# Altium footprint library JMPKG.PcbLib: 337 footprints (part 4 of 22)
Each footprint in its own frame and in the unit in brackets; x right, y up, seen from the top. Pads: shape width x height; smd on the part's side, far side on the other; paste and mask are expansions set on the pad; w line width, h text height; cw(c..) or ccw(c..) is an arc to the next point about the centre after c.
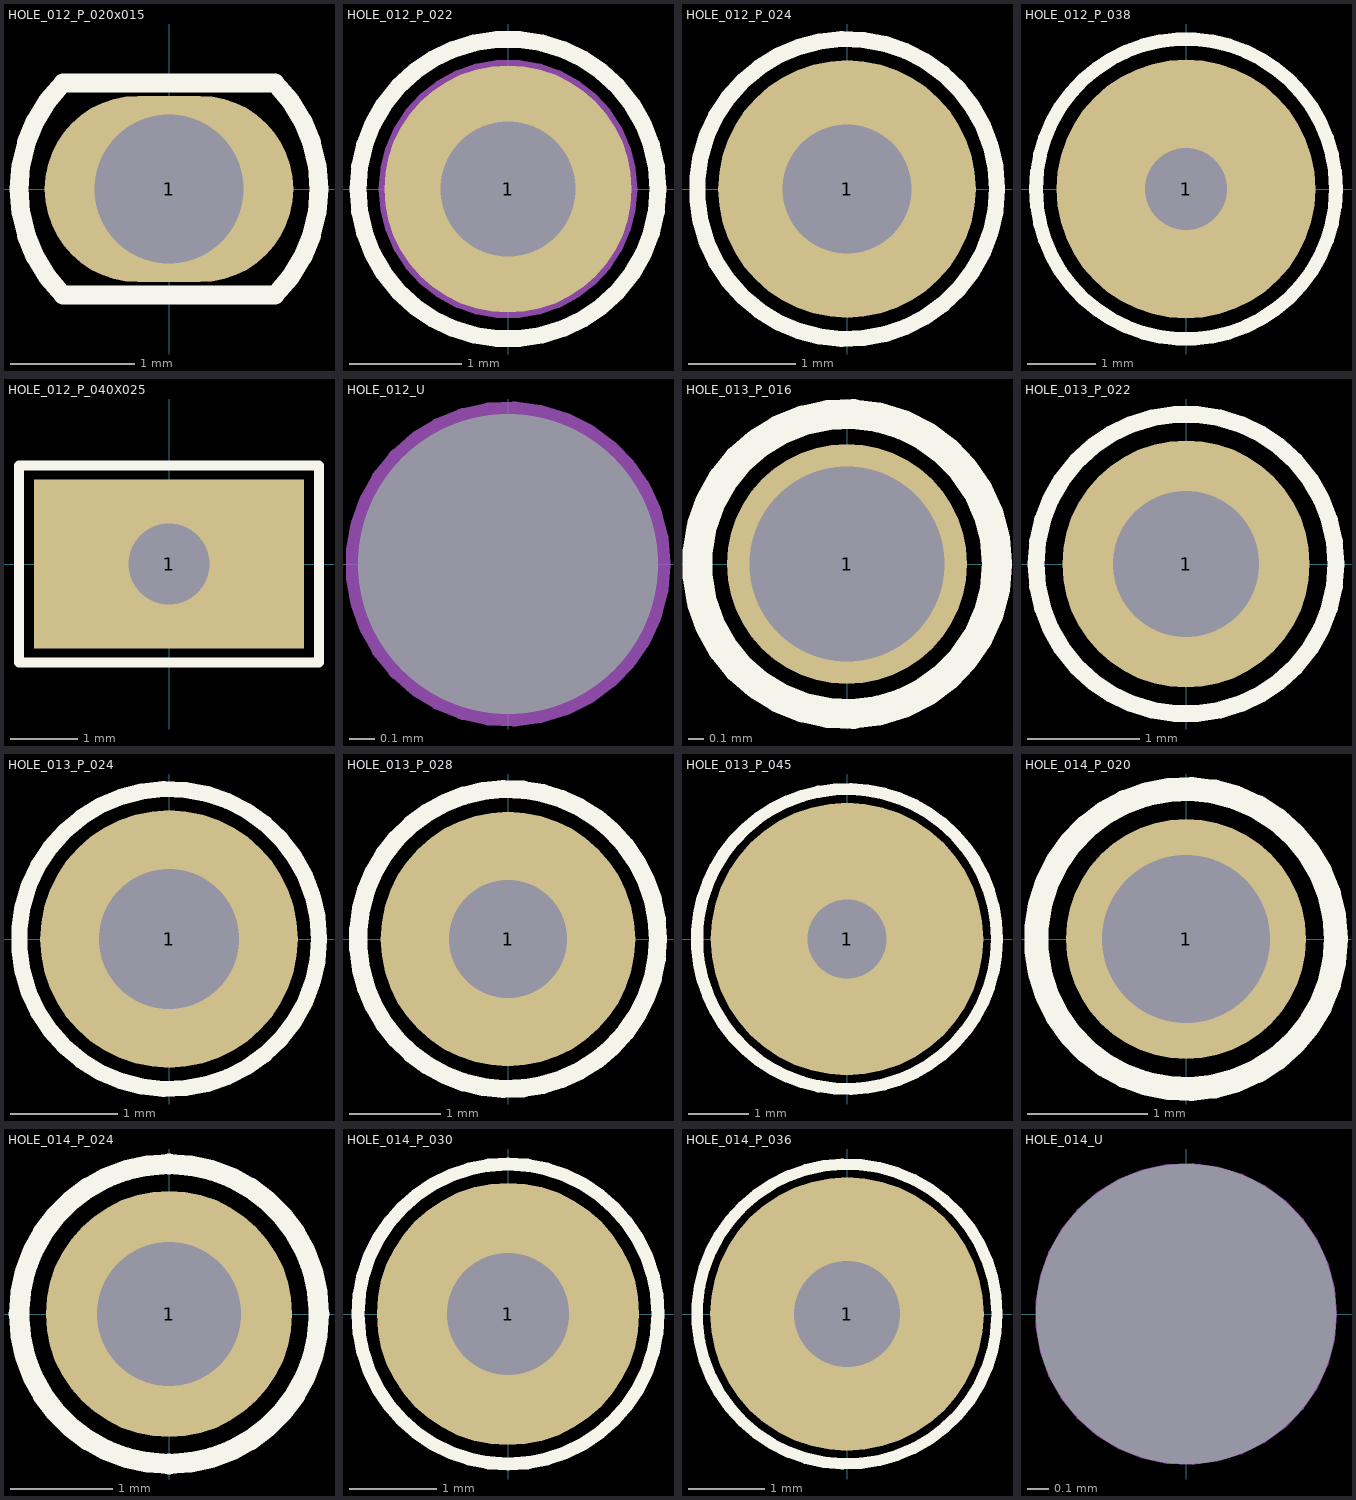
[diagram p3: the footprints below, top view; thin cyan lines are the x and y axes]

## HOLE_012_P_020x015 [mm] "Dira 1.2mm, ovalna ploska 2x1.5mm"
pads (1):
  oval 2x1.5 hole 1.2 mask+0.05: 1(0,0)
Top Overlay:
  lines w0.15: -0.853,-0.853 cw(c0,0) -0.853,0.853 0.853,0.853 cw(c0,0) 0.853,-0.853 -0.853,-0.853
Mechanical 15:
  circle w0.05: c0,0 r0.6
Mechanical 16:
  circle w0.05: c0,0 r0.6

## HOLE_012_P_022 [mm]
pads (1):
  round 2.2 hole 1.2 mask+0.05: 1(0,0)
Top Overlay:
  circle w0.15: c0,0 r1.333
Mechanical 15:
  circle w0.01: c0,0 r0.6
Mechanical 16:
  circle w0.01: c0,0 r0.6
Multi-Layer:
  text "Value" at -0.943,-0.622 h0.6
  text "Value" at -0.925,-1.073 h0.6
Mechanical 20:
  circle w0.1: c0,0 r1.1
  circle w0.01: c0,0 r1.333

## HOLE_012_P_024 [mm]
pads (1):
  round 2.4 hole 1.2 mask+0.05: 1(0,0)
Top Overlay:
  circle w0.15: c0,0 r1.397
Drill Drawing:
  circle w0.01: c0,0 r0.6
Multi-Layer:
  text "Value" at -0.943,-0.622 h0.6
  text "Value" at -0.968,-0.675 h0.6
Mechanical 20:
  circle w0.01: c0,0 r1.397

## HOLE_012_P_038 [mm]
pads (1):
  round 3.8 hole 1.2 mask+0.1: 1(0,0)
Top Overlay:
  circle w0.2: c0,0 r2.2
Mechanical 15:
  circle w0.1: c0,0 r0.6
Mechanical 16:
  circle w0.1: c0,0 r0.6
Multi-Layer:
  text "Value" at -1.235,-0.742 h0.75
Mechanical 20:
  circle w0.1: c0,0 r2.2

## HOLE_012_P_040X025 [mm]
pads (1):
  rect 4x2.5 hole 1.2 mask+0.05: 1(0,0)
Top Overlay:
  lines w0.15: -2.222,-1.46 -2.222,1.46 2.222,1.46 2.222,-1.46 -2.222,-1.46
Mechanical 15:
  circle w0.01: c0,0 r0.6
Mechanical 16:
  circle w0.01: c0,0 r0.6
Multi-Layer:
  text "Value" at -1.235,-0.983 h0.75
Mechanical 20:
  lines w0.01: -2.222,-1.46 -2.222,1.46 2.222,1.46 2.222,-1.46 -2.222,-1.46

## HOLE_012_U [mm]
pads (1):
  round 0 hole 1.2 unplated: 1(0,0)
Mechanical 15:
  circle w0.1: c0,0 r0.6
Mechanical 16:
  circle w0.1: c0,0 r0.6

## HOLE_013_P_016 [mm]
pads (1):
  round 1.6 hole 1.3 mask+0.05: 1(0,0)
Top Overlay:
  circle w0.2: c0,0 r1
Mechanical 15:
  circle w0.1: c0,0 r0.5
Mechanical 16:
  circle w0.1: c0,0 r0.5

## HOLE_013_P_022 [mm]
pads (1):
  round 2.2 hole 1.3 mask+0.05: 1(0,0)
Top Overlay:
  circle w0.15: c0,0 r1.333
Mechanical 15:
  circle w0.01: c0,0 r0.65
Mechanical 16:
  circle w0.01: c0,0 r0.65
Multi-Layer:
  text "Value" at -1.007,-0.686 h0.6
Mechanical 20:
  circle w0.01: c0,0 r1.333

## HOLE_013_P_024 [mm]
pads (1):
  round 2.4 hole 1.3 mask+0.05: 1(0,0)
Top Overlay:
  circle w0.15: c0,0 r1.397
Mechanical 15:
  circle w0.01: c0,0 r0.65
Mechanical 16:
  circle w0.01: c0,0 r0.65
Multi-Layer:
  text "Value" at -1.007,-0.686 h0.6
Mechanical 20:
  circle w0.01: c0,0 r1.397

## HOLE_013_P_028 [mm]
pads (1):
  round 2.8 hole 1.3 mask+0.05: 1(0,0)
Top Overlay:
  circle w0.2: c0,0 r1.65
Mechanical 15:
  circle w0.1: c0,0 r0.65
Mechanical 16:
  circle w0.1: c0,0 r0.65
Multi-Layer:
  text "Value" at -1.299,-0.806 h0.75
Mechanical 20:
  circle w0.1: c0,0 r1.65

## HOLE_013_P_045 [mm]
pads (1):
  round 4.5 hole 1.3 mask+0.05: 1(0,0)
Top Overlay:
  circle w0.2: c0,0 r2.476
Mechanical 15:
  circle w0.01: c0,0 r0.65
Mechanical 16:
  circle w0.01: c0,0 r0.65
Multi-Layer:
  text "Value" at -1.26,-1.276 h0.75
Mechanical 20:
  circle w0.01: c0,0 r2.476

## HOLE_014_P_020 [mm]
pads (1):
  round 2 hole 1.4 mask+0.1: 1(0,0)
Top Overlay:
  circle w0.2: c0,0 r1.25
Mechanical 15:
  circle w0.1: c0,0 r0.7
Mechanical 16:
  circle w0.1: c0,0 r0.7

## HOLE_014_P_024 [mm]
pads (1):
  round 2.4 hole 1.4 mask+0.05: 1(0,0)
Top Overlay:
  circle w0.2: c0,0 r1.462
Mechanical 15:
  circle w0.01: c0,0 r0.7
Mechanical 16:
  circle w0.01: c0,0 r0.7
Multi-Layer:
  text "Value" at -1.19,-1.28 h0.75
  text "Value" at -1.299,-1.11 h0.75
Mechanical 20:
  circle w0.01: c0,0 r1.46

## HOLE_014_P_030 [mm]
pads (1):
  round 3 hole 1.4 mask+0.05: 1(0,0)
Top Overlay:
  circle w0.15: c0,0 r1.714
Mechanical 15:
  circle w0.01: c0,0 r0.7
Mechanical 16:
  circle w0.01: c0,0 r0.7
Multi-Layer:
  text "Value" at -0.988,0.225 h0.6
Mechanical 20:
  circle w0.01: c0,0 r1.714

## HOLE_014_P_036 [mm]
pads (1):
  round 3.6 hole 1.4 mask+0.05: 1(0,0)
Top Overlay:
  circle w0.15: c0,0 r1.973
Mechanical 15:
  circle w0.01: c0,0 r0.7
Mechanical 16:
  circle w0.01: c0,0 r0.7
Multi-Layer:
  text "Value" at -0.943,-1.205 h0.6
Mechanical 20:
  circle w0.01: c0,0 r1.968

## HOLE_014_U [mm]
pads (1):
  round 0 hole 1.4 unplated: 1(0,0)
Mechanical 15:
  circle w0.01: c0,0 r0.7
Mechanical 16:
  circle w0.01: c0,0 r0.7